# EAGLE library part 690367281676 (library Eagle_BOARD-TO-BOARD_CONNECTORS (rev18b))
WR-MM Female SMT Connector with Polarization, 16 Pins=>Code : Con_BTB_MM_Female_SMT_690367281676 <http://katalog.we-online.de/media/thumbs2/eican/thb_Con_BTB_MM_Female_SMT_69036728xx76_pf2.jpg> Details see: http://katalog.we-online.de/en/em/6903_6728_xx_76 Created 2014-06-04, Karrer Zheng 2014 (C) Würth Elektronik
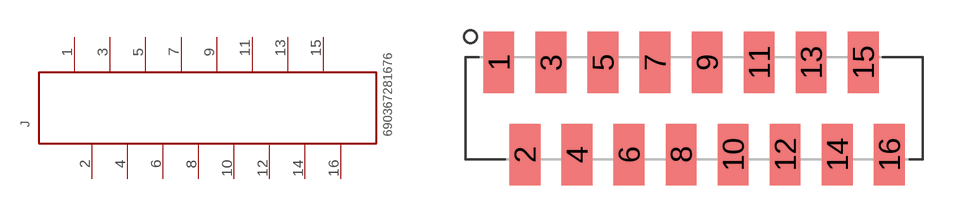
[diagram p354: symbol with the pads of 690367281676; footprint 690367281676]

Designator prefix J

## 690367281676  [690367281676]
1  16  pas
2  15  pas
3  14  pas
4  13  pas
5  12  pas
6  11  pas
7  10  pas
8  9  pas
9  8  pas
10  7  pas
11  6  pas
12  5  pas
13  4  pas
14  3  pas
15  2  pas
16  1  pas

## Footprint 690367281676 (pad centres in mm)
WR-MM Female SMT Connector with Polarization, 16 pins
smd 1.5 x 3: 1 -9.525,2.25; 2 -8.255,-2.25; 3 -6.985,2.25; 4 -5.715,-2.25; 5 -4.445,2.25; 6 -3.175,-2.25; 7 -1.905,2.25; 8 -0.635,-2.25; 9 0.635,2.25; 10 1.905,-2.25; 11 3.175,2.25; 12 4.445,-2.25; 13 5.715,2.25; 14 6.985,-2.25; 15 8.255,2.25; 16 9.525,-2.25